# Altium schematic symbol library TH Capacitors.SchLib: 2 symbols
Pins are listed as number, name and electrical type; pins without a type are passive.

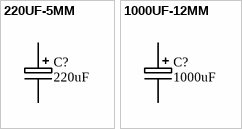
[diagram p0: symbols 220UF-5MM to 1000UF-12MM]

## 220UF-5MM
designator C?, comment 220uF
CAPACITOR POLARISED
footprint C+5MM
pins: +, -

## 1000UF-12MM
designator C?, comment 1000uF
CAPACITOR POLARISED
footprint C+12MM
pins: +, -